# Altium footprint library LED_7012X1.PcbLib: 1 footprints
Each footprint in its own frame and in the unit in brackets; x right, y up, seen from the top. Pads: shape width x height; smd on the part's side, far side on the other; paste and mask are expansions set on the pad; w line width, h text height; cw(c..) or ccw(c..) is an arc to the next point about the centre after c.
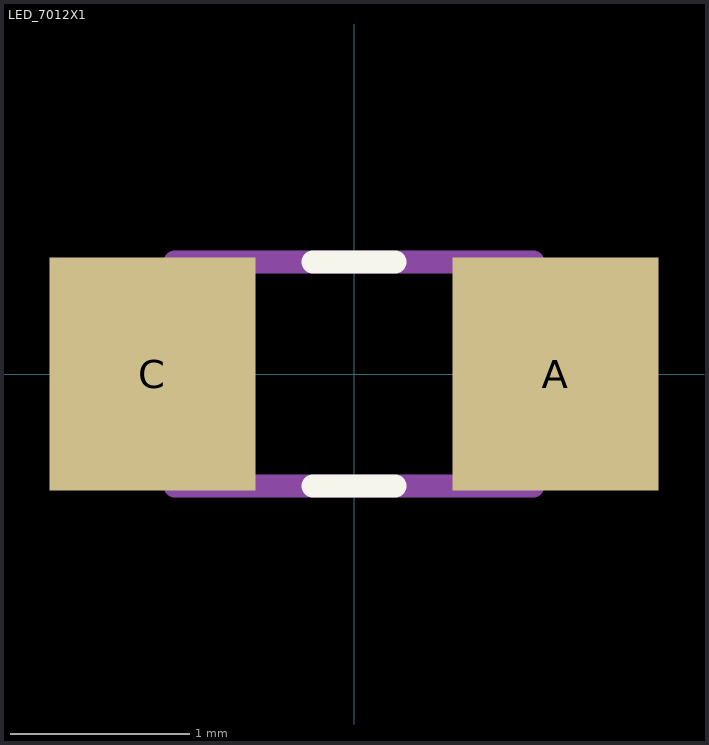
[diagram p0: the footprint, top view; thin cyan lines are the x and y axes]

## LED_7012X1 [mm]
pads (2):
  rect 1.15x1.3 smd: A(1.125,0) C(-1.125,0)
Top Overlay:
  lines w0.127: -0.23,-0.625 0.23,-0.625 ; -0.23,0.625 0.23,0.625
Assembly Top:
  lines w0.127: -1,-0.625 -1,0.625 1,0.625 1,-0.625 -1,-0.625
3D body "step_temp.STEP": height 1.2, standoff 0, extent -1,-0.625 1,0.625